# Altium footprint library SC_SO8W.PcbLib: 1 footprints
Each footprint in its own frame and in the unit in brackets; x right, y up, seen from the top. Pads: shape width x height; smd on the part's side, far side on the other; paste and mask are expansions set on the pad; w line width, h text height; cw(c..) or ccw(c..) is an arc to the next point about the centre after c.
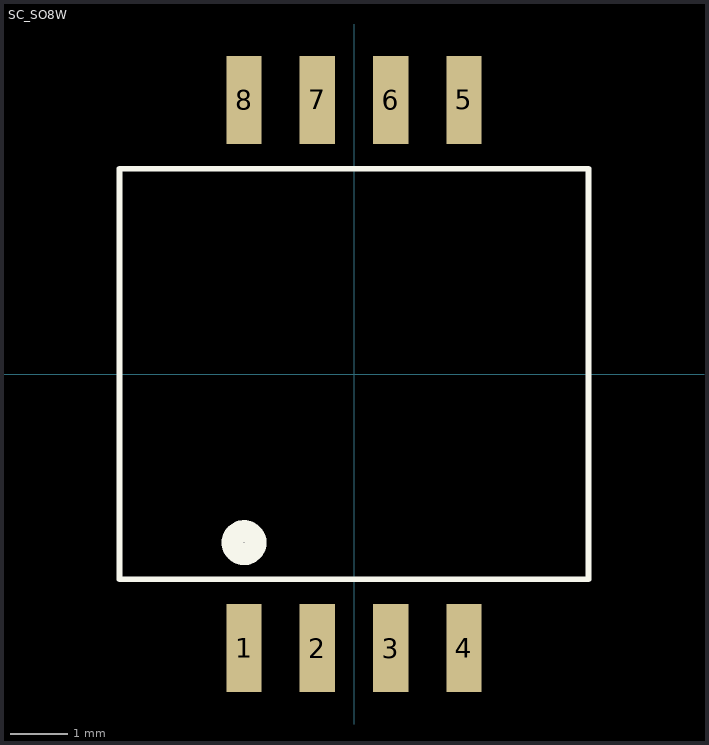
[diagram p0: the footprint, top view; thin cyan lines are the x and y axes]

## SC_SO8W [mil] "IC_SO8W"
pads (8):
  rect 24x60 smd: 1(-75,-187) 2(-25,-187) 3(25,-187) 4(75,-187) 5(75,187) 6(25,187) 7(-25,187) 8(-75,187)
Top Overlay:
  circle w14.96: c-75,-115 r7.81
  lines w4: -160,-140 -160,140 160,140 160,-140 -160,-140